# Altium schematic symbol library Schlib2.SchLib: 15 symbols
Pins are listed as number, name and electrical type; pins without a type are passive.

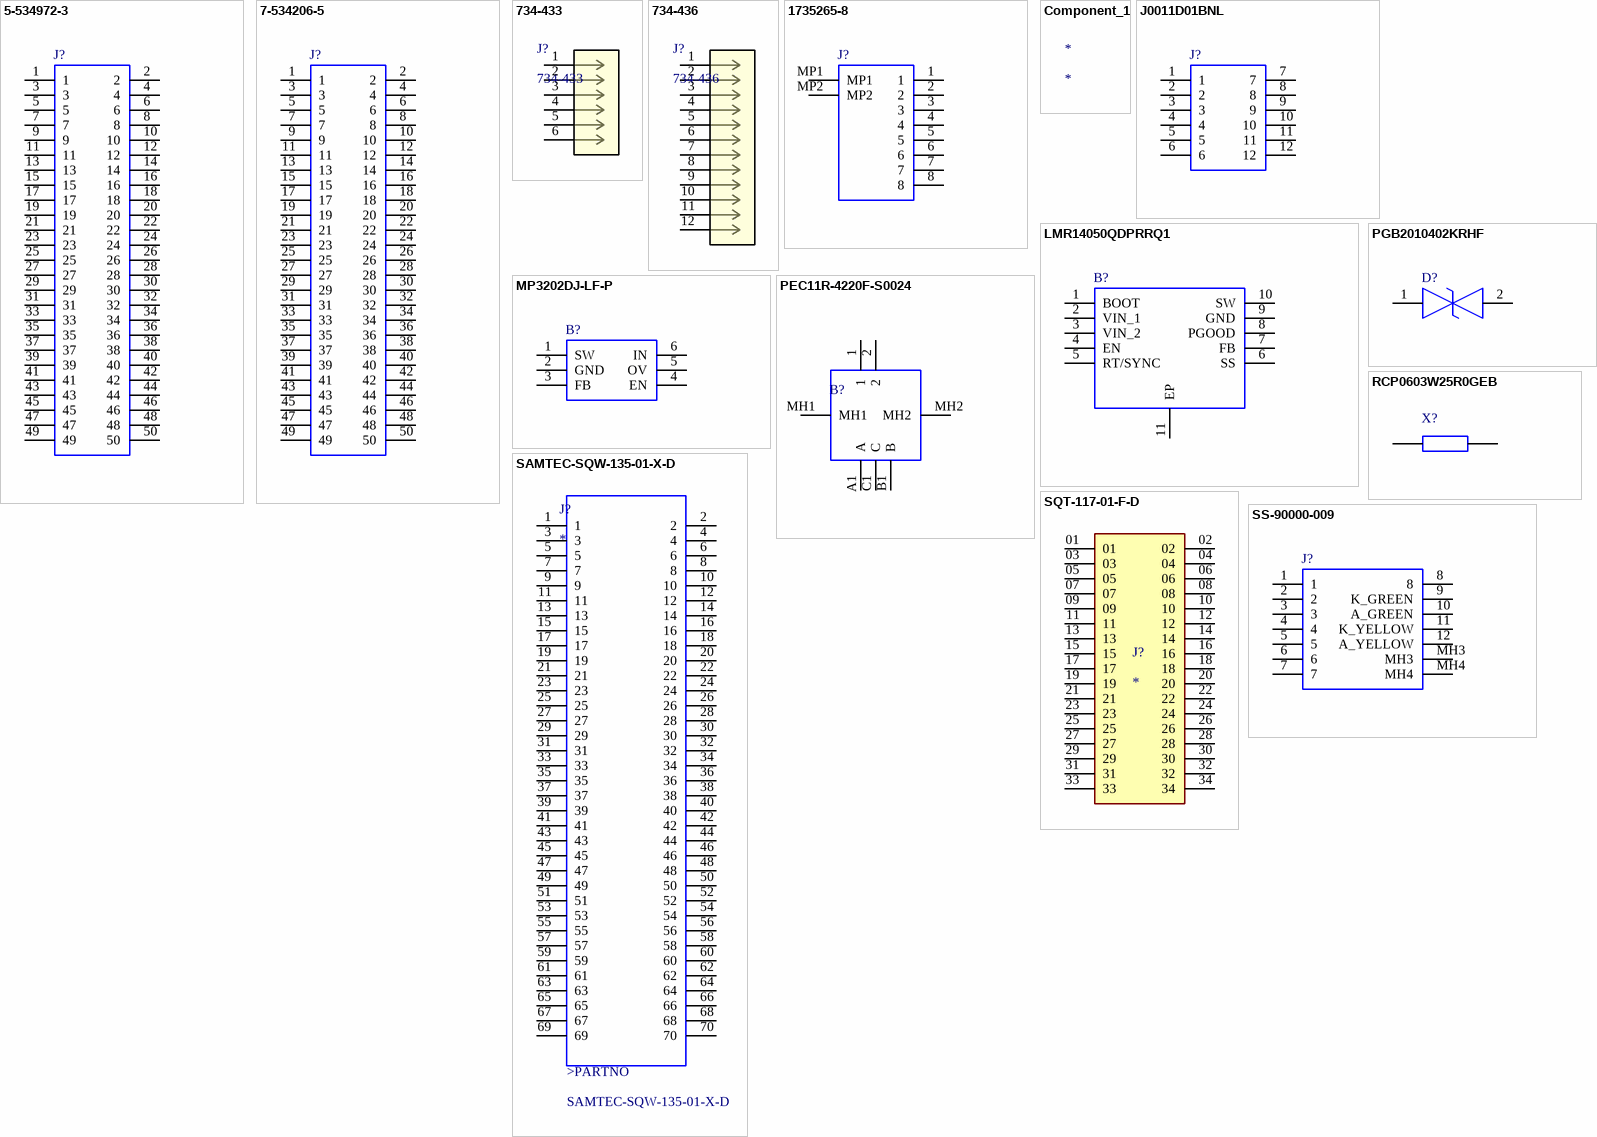
[diagram p0: symbols 5-534972-3 to SS-90000-009]

## 5-534972-3
designator J?
Headers & Wire Housings 50 MODII VRT 2PC DR CE 100CL; Manufacturer_Name: TE Connectivity; Geometry.Height: 10.414mm; Mouser Part Number: *; Mouser Price/Stock: *; Manufacturer_Part_Number: 5-534972-3; Datasheet Link: https://www.te.com/commerce/DocumentDelivery/DDEController?Action=showdoc&DocId=Customer+Drawing%7F534972%7FP3%7Fpdf%7FEnglish%7FENG_CD_534972_P3.pdf%7F5-534972-3
footprint RHDR50W71P254X254_2X25_7005X604X1041P
pins: 1, 2, 3, 4, 5, 6, 7, 8, 9, 10, 11, 12, 13, 14, 15, 16, 17, 18, 19, 20, 21, 22, 23, 24, 25, 26, 27, 28, 29, 30, 31, 32, 33, 34, 35, 36, 37, 38, 39, 40, 41, 42, 43, 44, 45, 46, 47, 48, 49, 50

## 7-534206-5
designator J?
50 MODII VRT DR CE 100/115; Manufacturer_Name: TE Connectivity; Geometry.Height: 8.13mm; Mouser Part Number: 571-7-534206-5; Mouser Price/Stock: https://www.mouser.co.uk/ProductDetail/TE-Connectivity/7-534206-5?qs=xDp7PGUNC%252BuPPv29aO326A%3D%3D; Manufacturer_Part_Number: 7-534206-5; Datasheet Link: http://catalog.tycoelectronics.com/TE/bin/TE.Connect?C=1&PN=7-534206-5&M=BYPN&LG=1&I=13&button.x=32&button.y=16
footprint RHDR50W76P254_2X25_6350X503X813P
pins: 1, 2, 3, 4, 5, 6, 7, 8, 9, 10, 11, 12, 13, 14, 15, 16, 17, 18, 19, 20, 21, 22, 23, 24, 25, 26, 27, 28, 29, 30, 31, 32, 33, 34, 35, 36, 37, 38, 39, 40, 41, 42, 43, 44, 45, 46, 47, 48, 49, 50

## 734-433
designator J?
No Description Available; Mfr_Name: Wago; Copyright: Copyright (C) 2022 Ultra Librarian. All rights reserved.; Manufacturer_Part_Number: 734-433; RefDes: RefDes; Type: DEV
footprint CONN6_734-433_WAG
pins: 1, 2, 3, 4, 5, 6

## 734-436
designator J?
No Description Available; Mfr_Name: Wago; Copyright: Copyright (C) 2022 Ultra Librarian. All rights reserved.; Manufacturer_Part_Number: 734-436; RefDes: RefDes; Type: DEV
footprint CONN12_734-436_WAG
pins: 1, 2, 3, 4, 5, 6, 7, 8, 9, 10, 11, 12

## 1735265-8
designator J?
1MM FPC HORZ.BOTTOM CONT.ASSY 8P (Au); Manufacturer_Name: TE Connectivity; Geometry.Height: 2.74mm; Mouser Part Number: 571-1735265-8; Mouser Price/Stock: https://www.mouser.co.uk/ProductDetail/TE-Connectivity-AMP/1735265-8?qs=vkMqrgFpRajjm%252BbPDw7SSA%3D%3D; Manufacturer_Part_Number: 1735265-8; Datasheet Link: https://www.te.com/commerce/DocumentDelivery/DDEController?Action=showdoc&DocId=Customer+Drawing%7F1735265%7FB%7Ftif%7FEnglish%7FENG_CD_1735265_B.tif%7F1735265-8
footprint 17352658
pins: 1, 2, 3, 4, 5, 6, 7, 8, MP1, MP2

## Component_1
designator *

## J0011D01BNL
designator J?
Modular Connectors / Ethernet Connectors 1X1 TAB DOWN W/LEDS; Manufacturer_Name: Pulse; Mouser Part Number: 673-J0011D01BNL; Mouser Price/Stock: https://www.mouser.co.uk/ProductDetail/Pulse-Electronics/J0011D01BNL?qs=9%2F6FFzrkRD4Rq630UotJIw%3D%3D; Manufacturer_Part_Number: J0011D01BNL; Datasheet Link: http://productfinder.pulseeng.com/files/datasheets/J403.pdf
footprint J0011D21BNL
pins: 1, 2, 3, 4, 5, 6, 7, 8, 9, 10, 11, 12

## LMR14050QDPRRQ1
designator B?
Automotive 40V, 5A SIMPLE SWITCHER&#174;, 2.2MHz Step-Down Regulator with 40uA IQ; Manufacturer_Name: Texas Instruments; Geometry.Height: 0.8mm; Mouser Part Number: 595-LMR14050QDPRRQ1; Mouser Price/Stock: https://www.mouser.co.uk/ProductDetail/Texas-Instruments/LMR14050QDPRRQ1?qs=osPbIpHqQ9V%2F1b1tDugQKw%3D%3D; Manufacturer_Part_Number: LMR14050QDPRRQ1; Datasheet Link: http://www.ti.com/lit/gpn/lmr14050-q1
footprint SON80P400X400X80-11N
pins: 1 BOOT, 2 VIN_1, 3 VIN_2, 4 EN, 5 RT/SYNC, 6 SS, 7 FB, 8 PGOOD, 9 GND, 10 SW, 11 EP

## MP3202DJ-LF-P
designator B?
Monolithic Power Systems (MPS) MP3202DJ-LF-P LED Driver IC, 2.5  6 V 6-Pin; Geometry.Height: 1mm; Mouser Part Number: 946-MP3202DJLFP; Mouser Price/Stock: https://www.mouser.co.uk/ProductDetail/Monolithic-Power-Systems-MPS/MP3202DJ-LF-P?qs=rC7bBWoQAAnkWXT%252BwQ2sJQ%3D%3D; Manufacturer_Name: Monolithic Power Systems (MPS); Manufacturer_Part_Number: MP3202DJ-LF-P; Datasheet Link: http://www.monolithicpower.com/DesktopModules/DocumentManage/API/Document/GetDocument?id=1215
footprint SOT95P280X100-6N
pins: 1 SW, 2 GND, 3 FB, 4 EN, 5 OV, 6 IN

## PEC11R-4220F-S0024
designator B?
Bourns 24 Pulse Incremental Mechanical Rotary Encoder with a 6 mm Flat Shaft (Not Indexed), Through Hole; Geometry.Height: 27.5mm; Mouser Part Number: 652-PEC11R-4220F-S24; Mouser Price/Stock: https://www.mouser.co.uk/ProductDetail/Bourns/PEC11R-4220F-S0024?qs=Zq5ylnUbLm6NGsQdib%2Ffbw%3D%3D; Manufacturer_Name: Bourns; Manufacturer_Part_Number: PEC11R-4220F-S0024; Datasheet Link: https://www.bourns.com/docs/Product-Datasheets/PEC11R.pdf
footprint PEC11R4220FS0024
pins: 1, 2, A1 A, B1 B, C1 C, MH1, MH2

## PGB2010402KRHF
designator D?
Littelfuse PGB2 Series Metal Oxide Varistor 0.07pF, Clamping 40V 0402 (1005M) Case; Geometry.Height: 0.38mm; Mouser Part Number: 576-PGB2010402KRHF; Mouser Price/Stock: https://www.mouser.co.uk/ProductDetail/Littelfuse/PGB2010402KRHF?qs=%2FlIrRR7EiyoCDVt%2F%252Bx2RKA%3D%3D; Manufacturer_Name: LITTELFUSE; Manufacturer_Part_Number: PGB2010402KRHF; Datasheet Link: https://componentsearchengine.com/Datasheets/1/PGB2010402KRHF.pdf
footprint DIONC1005X38N
pins: 1, 2

## RCP0603W25R0GEB
designator X?
Vishay 25 0603 (1608M) Thick Film SMD Resistor +/-2% 1.5W - RCP0603W25R0GEB; Geometry.Height: 0.59mm; Mouser Part Number: *; Mouser Price/Stock: *; Manufacturer_Name: Vishay; Manufacturer_Part_Number: RCP0603W25R0GEB; Datasheet Link: *
footprint RESC1608X59N
pins: 1, 2

## SAMTEC-SQW-135-01-X-D
designator J?
MP: SAMTEC-SQW-135-01-X-D; Package: None; Price: None; Value: *; Availability: Unavailable
footprint SAMTEC-SQW-135-01-X-D
pins: 1, 2, 3, 4, 5, 6, 7, 8, 9, 10, 11, 12, 13, 14, 15, 16, 17, 18, 19, 20, 21, 22, 23, 24, 25, 26, 27, 28, 29, 30, 31, 32, 33, 34, 35, 36, 37, 38, 39, 40, 41, 42, 43, 44, 45, 46, 47, 48, 49, 50, 51, 52, 53, 54, 55, 56, 57, 58, 59, 60, 61, 62, 63, 64, 65, 66, 67, 68, 69, 70
text: >PARTNO

## SQT-117-01-F-D
designator J?
MF: Samtec; MP: SQT-117-01-F-D; Package: None; Value: *; Price: None; Availability: Unavailable
footprint SAMTEC_SQT-117-01-F-D
pins: 01, 02, 03, 04, 05, 06, 07, 08, 09, 10, 11, 12, 13, 14, 15, 16, 17, 18, 19, 20, 21, 22, 23, 24, 25, 26, 27, 28, 29, 30, 31, 32, 33, 34

## SS-90000-009
designator J?
RJ45 8P8C Essential Jack; Manufacturer_Name: BelFuse; Geometry.Height: 13.38mm; Mouser Part Number: 530-SS-90000-009; Mouser Price/Stock: https://www.mouser.co.uk/ProductDetail/Stewart-Connector-Bel/SS-90000-009?qs=T%252BzbugeAwjge6q5Vl6EkRg%3D%3D; Manufacturer_Part_Number: SS-90000-009; Datasheet Link: https://www.belfuse.com/resources/drawings/stewartconnector/dr-STW-SS-90000-009.pdf
footprint SS90000009
pins: 1, 2, 3, 4, 5, 6, 7, 8, 9 K_GREEN, 10 A_GREEN, 11 K_YELLOW, 12 A_YELLOW, MH3, MH4